# Altium schematic symbol library ELEC-DEM-555Timer.SchLib: 1 symbol
Pins are listed as number, name and electrical type; pins without a type are passive.

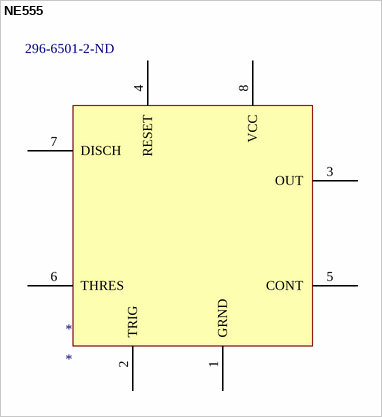
[diagram p0: symbol NE555]

## NE555
designator *  Supplier Part Number 1: 296-6501-2-ND
Supplier 1: Digi-Key
pins: 1 GRND, 2 TRIG, 3 OUT, 4 RESET, 5 CONT, 6 THRES, 7 DISCH, 8 VCC